# Altium footprint library flight-controller.PcbLib: 66 footprints (part 5 of 5)
Each footprint in its own frame and in the unit in brackets; x right, y up, seen from the top. Pads: shape width x height; smd on the part's side, far side on the other; paste and mask are expansions set on the pad; w line width, h text height; cw(c..) or ccw(c..) is an arc to the next point about the centre after c.
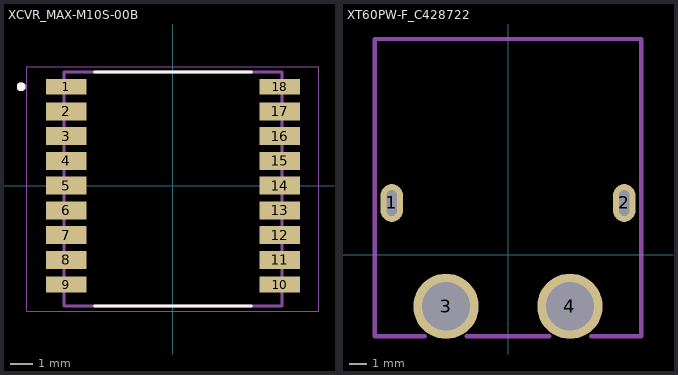
[diagram p4: the footprints below, top view; thin cyan lines are the x and y axes]

## XCVR_MAX-M10S-00B [mm]
height 2.7
pads (18):
  rect 1.8x0.7 smd paste-2: 1(-4.75,4.4) 9(-4.75,-4.4) 10(4.75,-4.4) 18(4.75,4.4)
  rect 1.8x0.8 smd paste-2: 2(-4.75,3.3) 3(-4.75,2.2) 4(-4.75,1.1) 5(-4.75,0) 6(-4.75,-1.1) 7(-4.75,-2.2) 8(-4.75,-3.3) 11(4.75,-3.3) 12(4.75,-2.2) 13(4.75,-1.1) 14(4.75,0) 15(4.75,1.1) 16(4.75,2.2) 17(4.75,3.3)
Top Overlay:
  circle w0.2: c-6.75,4.4 r0.1
  lines w0.127: -3.49,-5.35 3.49,-5.35 ; -3.49,5.05 3.49,5.05
Top Paste:
  region: 5.55,4.7 5.55,4.1 3.95,4.1 3.95,4.7
  region: 5.55,2.5 5.55,1.9 3.95,1.9 3.95,2.5
  region: 5.55,3.6 5.55,3 3.95,3 3.95,3.6
  region: 5.55,-4.1 5.55,-4.7 3.95,-4.7 3.95,-4.1
  region: 5.55,-3 5.55,-3.6 3.95,-3.6 3.95,-3
  region: 5.55,-1.9 5.55,-2.5 3.95,-2.5 3.95,-1.9
  region: 5.55,-0.8 5.55,-1.4 3.95,-1.4 3.95,-0.8
  region: 5.55,0.3 5.55,-0.3 3.95,-0.3 3.95,0.3
  region: 5.55,1.4 5.55,0.8 3.95,0.8 3.95,1.4
  region: -3.95,4.7 -3.95,4.1 -5.55,4.1 -5.55,4.7
  region: -3.95,2.5 -3.95,1.9 -5.55,1.9 -5.55,2.5
  region: -3.95,3.6 -3.95,3 -5.55,3 -5.55,3.6
  region: -3.95,-4.1 -3.95,-4.7 -5.55,-4.7 -5.55,-4.1
  region: -3.95,-3 -3.95,-3.6 -5.55,-3.6 -5.55,-3
  region: -3.95,-1.9 -3.95,-2.5 -5.55,-2.5 -5.55,-1.9
  region: -3.95,-0.8 -3.95,-1.4 -5.55,-1.4 -5.55,-0.8
  region: -3.95,0.3 -3.95,-0.3 -5.55,-0.3 -5.55,0.3
  region: -3.95,1.4 -3.95,0.8 -5.55,0.8 -5.55,1.4
Mechanical 13:
  circle w0.2: c-6.75,4.4 r0.1
  lines w0.127: -4.85,-5.35 -4.85,5.05 4.85,5.05 4.85,-5.35 -4.85,-5.35
Mechanical 15:
  lines w0.05: -6.5,-5.6 -6.5,5.3 6.5,5.3 6.5,-5.6 -6.5,-5.6
3D body "step_temp.STEP": height 2.7, standoff 0, extent -4.85,-5.35 4.85,5.05

## XT60PW-F_C428722 [mm]
pads (4):
  rrect100% 1.3x2.2 hole 0.6 slot 1.5 at 90 deg: 1(-6.75,3) 2(6.75,3)
  rrect100% 3.8x3.8 hole 2.8: 3(-3.6,-3) 4(3.6,-3)
Mechanical 15:
  lines w0.254: -4.826,-4.747 -7.747,-4.747 -7.747,12.525 7.747,12.525 7.747,-4.747 4.826,-4.747 ; -2.413,-4.747 2.413,-4.747
3D body "XT60PW-F_C428722.step": height 8.4, standoff -4, extent -7.801,-4.688 7.699,12.512